# Altium integrated library DM3AT-SF-PEJM5.IntLib: 1 symbol
Pins are listed as number, name and electrical type; pins without a type are passive.

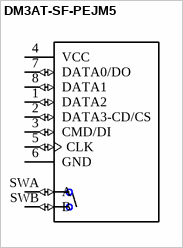
[diagram p0: symbol DM3AT-SF-PEJM5]

## DM3AT-SF-PEJM5
designator J?  (value not drawn)
DM3%20Series%208%20Position%20Right%20Angle%20SMT%20Push%20Push%20Ejection%20MicroSD%20Card%20Connector; MF: Hirose; Package: None; Availability: Good; MP: DM3AT-SF-PEJM5; Price: 1.97 USD; Value: *
footprint HRS_DM3AT-SF-PEJM5_DM3AT-SF-PEJM5(Primary)
pins: 1 DATA2 (io), 2 DATA3-CD/CS (io), 3 CMD/DI (io), 4 VCC (power), 5 CLK (io), 6 GND (power), 7 DATA0/DO (io), 8 DATA1 (io), SWA A (io), SWB B (io)